# Altium footprint library TI WEBENCH.PcbLib: 30 footprints (part 2 of 2)
Each footprint in its own frame and in the unit in brackets; x right, y up, seen from the top. Pads: shape width x height; smd on the part's side, far side on the other; paste and mask are expansions set on the pad; w line width, h text height; cw(c..) or ccw(c..) is an arc to the next point about the centre after c.
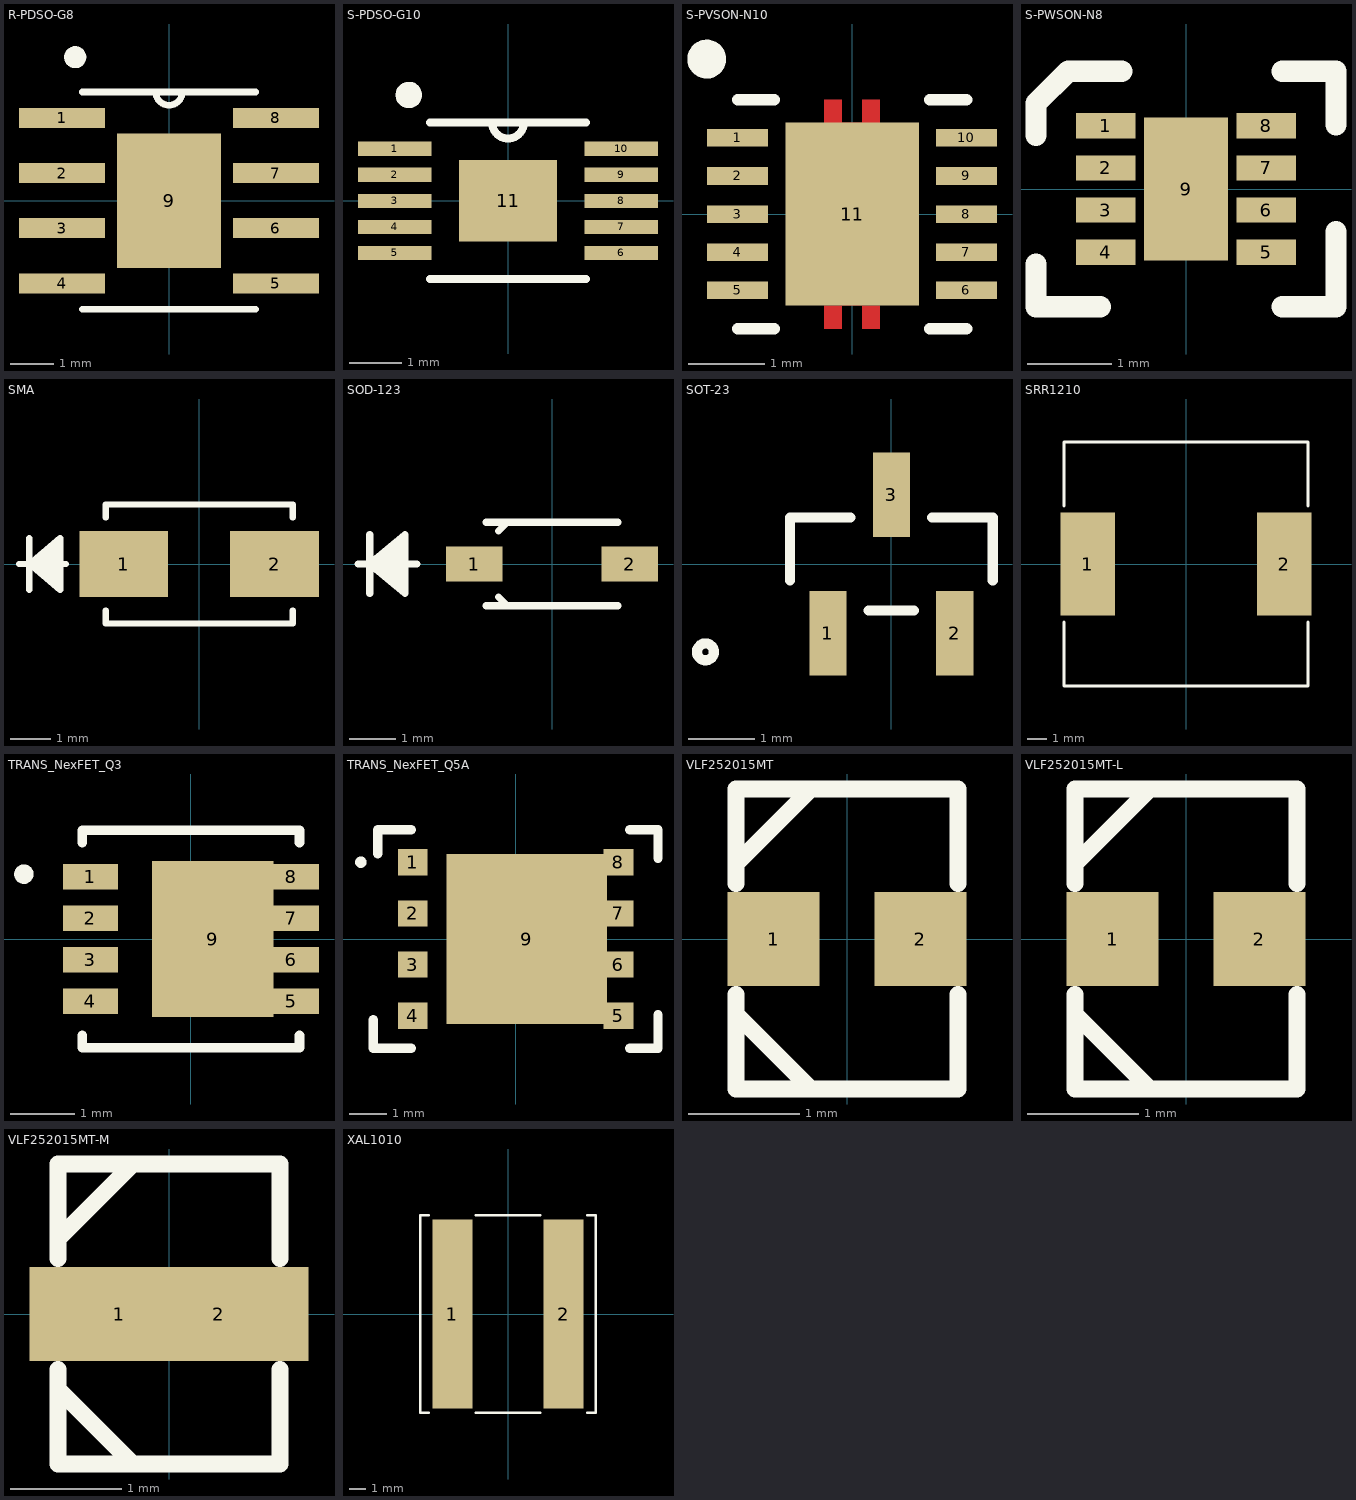
[diagram p1: the footprints below, top view; thin cyan lines are the x and y axes]

## R-PDSO-G8 [mil]
pads (9):
  rect 78x18.14 smd: 1(-97,75) 2(-97,25) 3(-97,-25) 4(-97,-75) 5(97,-75) 6(97,-25) 7(97,25) 8(97,75)
  rect 94x122 smd paste-60.5: 9(0,0)
Top Overlay:
  circle w10: c-85,130 r5
  lines w6: -78.5,-98.5 78.5,-98.5 ; -78.5,98.5 78.5,98.5 ; -12,98.5 ccw(c0,98.5) 12,98.5
Top Paste:
  region: 43.06,-3.94 -43.06,-3.94 -43.06,-57.06 43.06,-57.06
  region: 43.06,57.06 -43.06,57.06 -43.06,3.94 43.06,3.94

## S-PDSO-G10 [mm]
pads (11):
  rect 1.411x0.27 smd: 1(-2.175,1) 2(-2.175,0.5) 3(-2.175,0) 4(-2.175,-0.5) 5(-2.175,-1) 6(2.175,-1) 7(2.175,-0.5) 8(2.175,0) 9(2.175,0.5) 10(2.175,1)
  rect 1.88x1.57 smd paste-0.927: 11(0,0)
Top Overlay:
  circle w0.254: c-1.905,2.032 r0.127
  lines w0.152: -1.5,-1.5 1.5,-1.5 ; -1.5,1.5 1.5,1.5 ; -0.305,1.5 ccw(c0,1.5) 0.305,1.5
Top Paste:
  region: 0.94,0.785 -0.94,0.785 -0.94,-0.785 0.94,-0.785

## S-PVSON-N10 [mm]
pads (11):
  rect 0.8x0.23 smd: 1(-1.5,1) 2(-1.5,0.5) 3(-1.5,0) 4(-1.5,-0.5) 5(-1.5,-1) 6(1.5,-1) 7(1.5,-0.5) 8(1.5,0) 9(1.5,0.5) 10(1.5,1)
  rect 1.75x2.4 smd paste-1.187: 11(0,0)
Top Layer:
  region: -0.365,1.2 0.365,1.2 0.365,1.5 0.135,1.5 0.135,1.2 -0.135,1.2 -0.135,1.5 -0.365,1.5
  region: -0.365,-1.2 0.365,-1.2 0.365,-1.5 0.135,-1.5 0.135,-1.2 -0.135,-1.2 -0.135,-1.5 -0.365,-1.5
Top Overlay:
  circle w0.254: c-1.905,2.032 r0.127
  lines w0.152: -1.5,-1.5 -1.019,-1.5 ; -1.5,1.5 -1.019,1.5 ; 1.019,-1.5 1.5,-1.5 ; 1.019,1.5 1.5,1.5
Top Paste:
  region: 0.875,1.2 -0.875,1.2 -0.875,-1.2 0.875,-1.2
  region: 0.135,1.2 0.365,1.2 0.365,1.5 0.135,1.5
  region: -0.365,1.2 -0.135,1.2 -0.135,1.5 -0.365,1.5
  region: 0.135,-1.2 0.365,-1.2 0.365,-1.5 0.135,-1.5
  region: -0.365,-1.2 -0.135,-1.2 -0.135,-1.5 -0.365,-1.5
Top Solder:
  region: -0.365,1.2 0.365,1.2 0.365,1.5 0.135,1.5 0.135,1.2 -0.135,1.2 -0.135,1.5 -0.365,1.5
  region: -0.365,-1.2 0.365,-1.2 0.365,-1.5 0.135,-1.5 0.135,-1.2 -0.135,-1.2 -0.135,-1.5 -0.365,-1.5

## S-PWSON-N8 [mm]
pads (9):
  rect 0.705x0.3 smd: 1(-0.952,0.75) 2(-0.952,0.25) 3(-0.952,-0.25) 4(-0.952,-0.75) 5(0.952,-0.75) 6(0.952,-0.25) 7(0.952,0.25) 8(0.952,0.75)
  rect 1x1.7 smd paste-0.837: 9(0,0)
Top Overlay:
  lines w0.254: -1.778,-0.889 -1.778,-1.397 -1.016,-1.397 ; -1.778,0.635 -1.778,1.016 -1.397,1.397 -0.762,1.397 ; 1.143,-1.397 1.778,-1.397 1.778,-0.508 ; 1.143,1.397 1.778,1.397 1.778,0.762
Top Paste:
  region: 0.5,0.85 -0.5,0.85 -0.5,-0.85 0.5,-0.85

## SMA [mil]
pads (2):
  rect 86x64 smd: 1(-73,0) 2(73,0)
Top Overlay:
  lines w6: -174.5,0 -129.1,0 ; -164.5,-25 -164.5,25 ; -134.5,-20 -164.5,0 ; -134.5,-15 -164.5,0 ; -134.5,-10 -164.5,0 ; -134.5,-5 -164.5,0 ; -134.5,5 -164.5,0 ; -134.5,10 -164.5,0 ; -134.5,15 -164.5,0 ; -134.5,20 -164.5,0 ; -90.5,-45.1 -90.5,-57.5 90.5,-57.5 90.5,-45.1 ; -90.5,45.1 -90.5,57.5 90.5,57.5 90.5,45.1 ; -164.5,0 -134.5,-25 -134.5,25 -164.5,0

## SOD-123 [mil]
pads (2):
  rect 48x30 smd: 1(-66,0) 2(66,0)
Top Overlay:
  lines w6: -165,0 -115,0 ; -155,-25 -155,25 ; -125,-20 -155,0 ; -125,-15 -155,0 ; -125,-10 -155,0 ; -125,-5 -155,0 ; -125,5 -155,0 ; -125,10 -155,0 ; -125,15 -155,0 ; -125,20 -155,0 ; -56,-35.5 56,-35.5 ; -56,35.5 56,35.5 ; -45.65,-28.1 -38.25,-35.5 ; -45.65,28.1 -38.25,35.5 ; -155,0 -125,25 -125,-25 -155,0

## SOT-23 [mil]
pads (3):
  rect 22x50 smd: 1(-37.5,-41) 2(37.5,-41) 3(0,41)
Top Overlay:
  circle w6: c-110,-52 r5
  lines w6: -60,-9.73 -60,27.5 -24.1,27.5 ; -13.4,-27.5 13.4,-27.5 ; 24.1,27.5 60,27.5 60,-9.73

## SRR1210 [mil]
pads (2):
  rect 110x209 smd: 1(-198.5,0) 2(198.5,0)
Top Overlay:
  lines w6: -246,-117.6 -246,-246 246,-246 246,-117.6 ; -246,117.6 -246,246 246,246 246,117.6

## TRANS_NexFET_Q3 [mil]
pads (9):
  rect 34x16 smd: 1(-62,38.39) 2(-62,12.8) 3(-62,-12.8) 4(-62,-38.39) 5(62,-38.39) 6(62,-12.8) 7(62,12.8) 8(62,38.39)
  rect 74.8x96.46 smd: 9(13.46,0)
Top Layer:
  region: 67,0
Top Overlay:
  circle w6: c-103,40 r3
  lines w6: -67,-59.49 -67,-67 67,-67 67,-59.49 ; -67,59.49 -67,67 67,67 67,59.49
Top Paste:
  region: 67,0
Top Solder:
  region: 67,0

## TRANS_NexFET_Q5A [mm]
pads (9):
  rect 0.8x0.7 smd paste-0.387: 1(-2.752,2.055) 2(-2.752,0.685) 3(-2.752,-0.685) 4(-2.752,-2.055) 5(2.752,-2.055) 6(2.752,-0.685) 7(2.752,0.685) 8(2.752,2.055)
  rect 4.3x4.56 smd paste-2.267 mask+0.025: 9(0.3,0)
Top Overlay:
  circle w0.152: c-4.141,2.055 r0.076
  lines w0.254: -3.81,-2.159 -3.81,-2.921 -3.556,-2.921 -2.794,-2.921 ; -3.683,2.286 -3.683,2.921 -2.794,2.921 ; 3.048,-2.921 3.81,-2.921 3.81,-2.032 ; 3.048,2.921 3.81,2.921 3.81,2.159
Top Paste:
  region: 3.153,2.405 2.352,2.405 2.352,1.705 3.153,1.705
  region: 3.153,1.035 2.352,1.035 2.352,0.335 3.153,0.335
  region: 3.153,-0.335 2.352,-0.335 2.352,-1.035 3.153,-1.035
  region: 3.153,-1.705 2.352,-1.705 2.352,-2.405 3.153,-2.405
  region: -2.352,-1.705 -3.153,-1.705 -3.153,-2.405 -2.352,-2.405
  region: -2.352,-0.335 -3.153,-0.335 -3.153,-1.035 -2.352,-1.035
  region: -2.352,1.035 -3.153,1.035 -3.153,0.335 -2.352,0.335
  region: -2.352,2.405 -3.153,2.405 -3.153,1.705 -2.352,1.705
  region: 2.25,-0.86 1.017,-0.86 1.017,-2.18 2.25,-2.18
  region: 2.25,0.66 1.017,0.66 1.017,-0.66 2.25,-0.66
  region: 2.25,2.18 1.017,2.18 1.017,0.86 2.25,0.86
  region: 0.817,-0.86 -0.417,-0.86 -0.417,-2.18 0.817,-2.18
  region: 0.817,0.66 -0.417,0.66 -0.417,-0.66 0.817,-0.66
  region: 0.817,2.18 -0.417,2.18 -0.417,0.86 0.817,0.86
  region: -0.617,-0.86 -1.85,-0.86 -1.85,-2.18 -0.617,-2.18
  region: -0.617,0.66 -1.85,0.66 -1.85,-0.66 -0.617,-0.66
  region: -0.617,2.18 -1.85,2.18 -1.85,0.86 -0.617,0.86
Top Solder:
  region: 2.35,-2.28 2.35,2.28 -1.95,2.28 -1.95,-2.28
  region: 3.153,2.405 2.352,2.405 2.352,1.705 3.153,1.705
  region: 3.153,1.035 2.352,1.035 2.352,0.335 3.153,0.335
  region: 3.153,-0.335 2.352,-0.335 2.352,-1.035 3.153,-1.035
  region: 3.153,-1.705 2.352,-1.705 2.352,-2.405 3.153,-2.405
  region: -2.352,-1.705 -3.153,-1.705 -3.153,-2.405 -2.352,-2.405
  region: -2.352,-0.335 -3.153,-0.335 -3.153,-1.035 -2.352,-1.035
  region: -2.352,1.035 -3.153,1.035 -3.153,0.335 -2.352,0.335
  region: -2.352,2.405 -3.153,2.405 -3.153,1.705 -2.352,1.705

## VLF252015MT [mm]
pads (2):
  rect 0.829x0.85 smd: 1(-0.661,0) 2(0.661,0)
Top Overlay:
  lines w0.152: -1,-0.675 -0.325,-1.35 ; -1,-0.501 -1,-1.35 1,-1.35 1,-0.501 ; -1,0.501 -1,1.35 1,1.35 1,0.501 ; -1,0.675 -0.325,1.35

## VLF252015MT-L [mm]
pads (2):
  rect 0.829x0.85 smd: 1(-0.661,0) 2(0.661,0)
Top Overlay:
  lines w0.152: -1,-0.675 -0.325,-1.35 ; -1,-0.501 -1,-1.35 1,-1.35 1,-0.501 ; -1,0.501 -1,1.35 1,1.35 1,0.501 ; -1,0.675 -0.325,1.35

## VLF252015MT-M [mm]
pads (2):
  rect 1.617x0.85 smd: 1(-0.446,0) 2(0.446,0)
Top Overlay:
  lines w0.152: -1,-0.675 -0.325,-1.35 ; -1,-0.501 -1,-1.35 1,-1.35 1,-0.501 ; -1,0.501 -1,1.35 1,1.35 1,0.501 ; -1,0.675 -0.325,1.35

## XAL1010 [mil]
pads (2):
  rect 94x445 smd: 1(-131,0) 2(131,0)
Top Overlay:
  lines w6: -186.46,-232.5 -207,-232.5 -207,232.5 -186.46,232.5 ; -75.54,-232.5 75.54,-232.5 ; -75.54,232.5 75.54,232.5 ; 186.46,-232.5 207,-232.5 207,232.5 186.46,232.5